# EAGLE library part 74HC4053PW,118 (library 2023-03-24_15-29-08_Library)
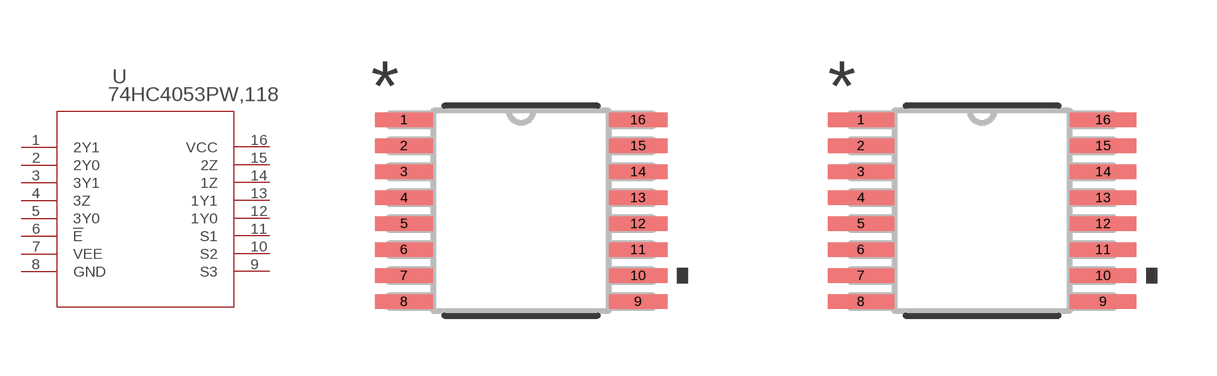
[diagram p0: symbol with the pads of TSSOP16_5P1X4P5_NEX; footprints TSSOP16_5P1X4P5_NEX, TSSOP16_5P1X4P5_NEX-M]

Designator prefix U

## 74HC4053PW,118TSSOP16_5P1X4P5_NEX (Copyright: Copyright (C) 2023 Ultra Librarian. All rights reserved.; Manufacturer_Part_Number: 74HC4053PW,118; Mfr_Name: Nexperia)  [TSSOP16_5P1X4P5_NEX]
1  2Y1
2  2Y0
3  3Y1
4  3Z
5  3Y0
6  !E  in
7  VEE  pwr
8  GND  pwr
9  S3  in
10  S2  in
11  S1  in
12  1Y0
13  1Y1
14  1Z
15  2Z
16  VCC  pwr

## 74HC4053PW,118TSSOP16_5P1X4P5_NEX-M (Copyright: Copyright (C) 2023 Ultra Librarian. All rights reserved.; Manufacturer_Part_Number: 74HC4053PW,118; Mfr_Name: Nexperia)  [TSSOP16_5P1X4P5_NEX-M]
Pads as for TSSOP16_5P1X4P5_NEX

## 74HC4053PW,118TSSOP16_5P1X4P5_NEX-L (Copyright: Copyright (C) 2023 Ultra Librarian. All rights reserved.; Manufacturer_Part_Number: 74HC4053PW,118; Mfr_Name: Nexperia)  [TSSOP16_5P1X4P5_NEX-L]
Pads as for TSSOP16_5P1X4P5_NEX

## Footprint TSSOP16_5P1X4P5_NEX (pad centres in mm)
smd 1.46 x 0.356: 1 -2.927,2.275; 2 -2.927,1.625; 3 -2.927,0.975; 4 -2.927,0.325; 5 -2.927,-0.325; 6 -2.927,-0.975; 7 -2.927,-1.625; 8 -2.927,-2.275; 9 2.927,-2.275; 10 2.927,-1.625; 11 2.927,-0.975; 12 2.927,-0.325; 13 2.927,0.325; 14 2.927,0.975; 15 2.927,1.625; 16 2.927,2.275

## Footprint TSSOP16_5P1X4P5_NEX-M (pad centres in mm)
smd 1.664 x 0.356: 1 -3.029,2.275; 2 -3.029,1.625; 3 -3.029,0.975; 4 -3.029,0.325; 5 -3.029,-0.325; 6 -3.029,-0.975; 7 -3.029,-1.625; 8 -3.029,-2.275; 9 3.029,-2.275; 10 3.029,-1.625; 11 3.029,-0.975; 12 3.029,-0.325; 13 3.029,0.325; 14 3.029,0.975; 15 3.029,1.625; 16 3.029,2.275

## Footprint TSSOP16_5P1X4P5_NEX-L (pad centres in mm)
smd 1.168 x 0.305: 1 -2.87,2.275; 2 -2.87,1.625; 3 -2.87,0.975; 4 -2.87,0.325; 5 -2.87,-0.325; 6 -2.87,-0.975; 7 -2.87,-1.625; 8 -2.87,-2.275; 9 2.87,-2.275; 10 2.87,-1.625; 11 2.87,-0.975; 12 2.87,-0.325; 13 2.87,0.325; 14 2.87,0.975; 15 2.87,1.625; 16 2.87,2.275